# Altium schematic symbol library 8494.SchLib: 2 symbols
Pins are listed as number, name and electrical type; pins without a type are passive.

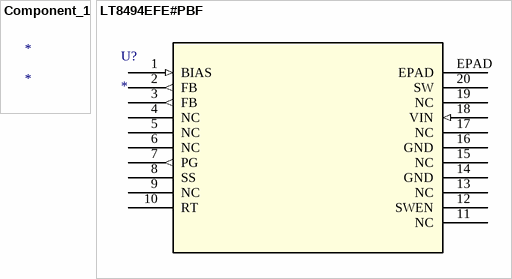
[diagram p0: symbols Component_1 to LT8494EFE#PBF]

## Component_1
designator *

## LT8494EFE#PBF
designator U?
Imported; Manufacturer_Part_Number: lt8494efe#pbf; Vendor: Linear Technology; Value: Value; Type: Type; RefDes: RefDes
footprint TSSOP-20_FE/CB
pins: 1 BIAS (in), 2 FB (out), 3 FB (out), 4 NC, 5 NC, 6 NC, 7 PG (out), 8 SS, 9 NC, 10 RT, 11 NC, 12 SWEN, 13 NC, 14 GND (power), 15 NC, 16 GND (power), 17 NC, 18 VIN (in), 19 NC, 20 SW, EPAD